# Altium integrated library TB006_-508-03BE.IntLib: 1 symbol
Pins are listed as number, name and electrical type; pins without a type are passive.

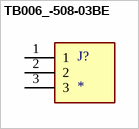
[diagram p0: symbol TB006_-508-03BE]

## TB006_-508-03BE
designator J?
2~24 Poles, Screw Type, Horizontal, 5.08 Pitch, 26~14 (AWG), Terminal Block Connector; MF: CUI Devices; MP: TB006 -508-03BE; Purchase-URL: https://pricing.snapeda.com/search/part/TB006 -508-03BE/?ref=eda; Package: None; Check_prices: https://www.snapeda.com/parts/TB006%20-508-03BE/CUI+Devices/view-part/?ref=eda; Value: *; CUI_purchase_URL: https://www.cuidevices.com/product/interconnect/connectors/terminal-blocks/tb006-508-series?utm_source=snapeda.com&utm_medium=referral&utm_campaign=snapedaBOM; SnapEDA_Link: https://www.snapeda.com/parts/TB006%20-508-03BE/CUI+Devices/view-part/?ref=snap; Availability: In Stock; Price: None
footprint CUI_TB006 -508-03BE
pins: 1, 2, 3